# Altium footprint library RESAD1075W45L335D185.PcbLib: 1 footprints
Each footprint in its own frame and in the unit in brackets; x right, y up, seen from the top. Pads: shape width x height; smd on the part's side, far side on the other; paste and mask are expansions set on the pad; w line width, h text height; cw(c..) or ccw(c..) is an arc to the next point about the centre after c.
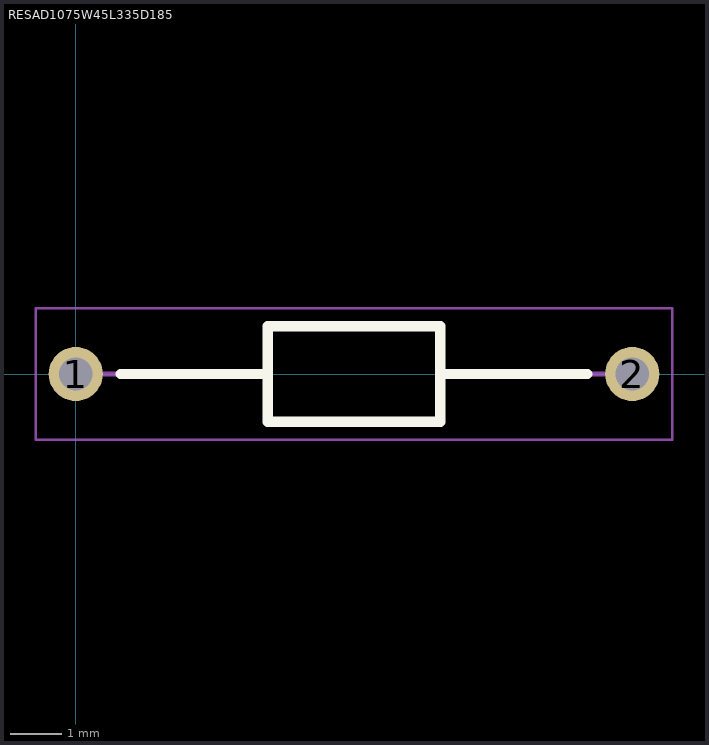
[diagram p0: the footprint, top view; thin cyan lines are the x and y axes]

## RESAD1075W45L335D185 [mm]
pads (2):
  round 1.05 hole 0.65: 1(0,0) 2(10.8,0)
Top Overlay:
  lines w0.2: 0.875,0 3.725,0 ; 7.075,0 9.925,0 ; 3.725,-0.925 7.075,-0.925 7.075,0.925 3.725,0.925 3.725,-0.925
Mechanical 15:
  lines w0.1: 0,0 3.725,0 ; 7.075,0 10.8,0 ; 3.725,-0.925 7.075,-0.925 7.075,0.925 3.725,0.925 3.725,-0.925
Mechanical 20:
  lines w0.05: -0.775,-1.275 11.575,-1.275 11.575,1.275 -0.775,1.275 -0.775,-1.275